# Altium footprint library WateringSystem_lib.PcbLib: 38 footprints (part 3 of 3)
Each footprint in its own frame and in the unit in brackets; x right, y up, seen from the top. Pads: shape width x height; smd on the part's side, far side on the other; paste and mask are expansions set on the pad; w line width, h text height; cw(c..) or ccw(c..) is an arc to the next point about the centre after c.
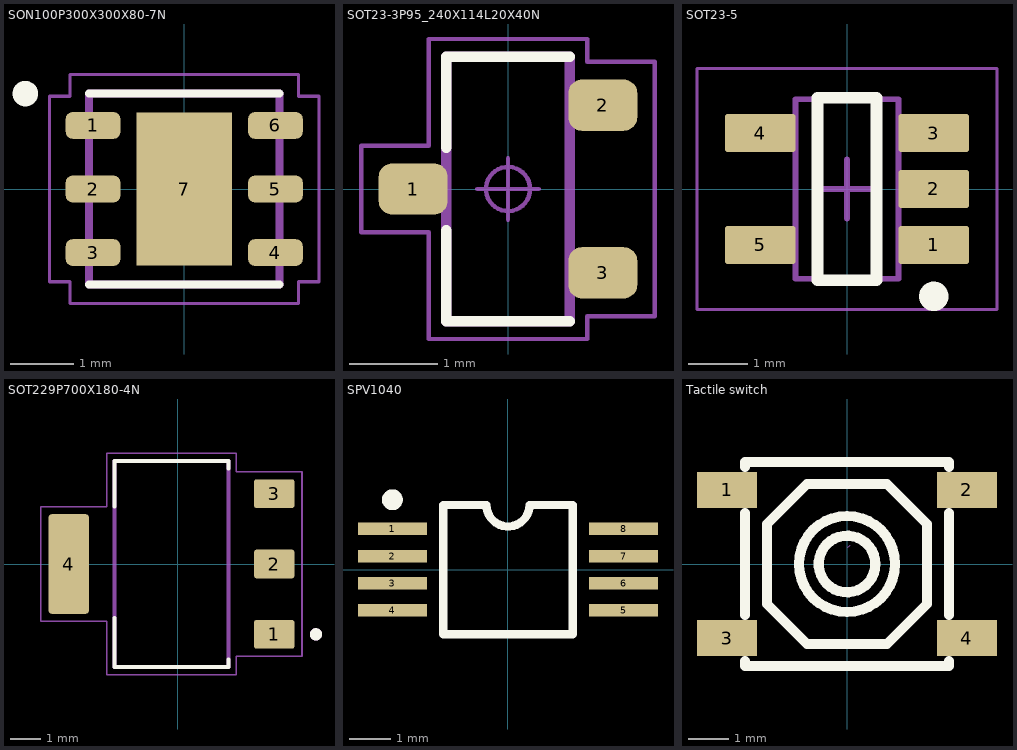
[diagram p2: the footprints below, top view; thin cyan lines are the x and y axes]

## SON100P300X300X80-7N [mm]
pads (7):
  rrect50% 0.86x0.42 smd: 1(-1.435,1) 2(-1.435,0) 3(-1.435,-1) 4(1.435,-1) 5(1.435,0) 6(1.435,1)
  rect 1.5x2.4 smd paste-2: 7(0,0)
Top Overlay:
  circle w0.2: c-2.5,1.5 r0.1
  lines w0.127: -1.5,-1.5 1.5,-1.5 ; -1.5,1.5 1.5,1.5
Top Paste:
  region: 0.485,0.09 -0.486,0.09 -0.486,1.02 0.485,1.02
  region: 0.485,-1.021 -0.485,-1.021 -0.485,-0.09 0.485,-0.09
Mechanical 13:
  lines w0.127: -1.5,-1.5 1.5,-1.5 1.5,1.5 -1.5,1.5 -1.5,-1.5
Mechanical 15:
  lines w0.05: -2.12,-1.46 -1.8,-1.46 -1.8,-1.8 1.8,-1.8 1.8,-1.46 2.12,-1.46 2.12,1.46 1.8,1.46 1.8,1.8 -1.8,1.8 -1.8,1.46 -2.12,1.46 -2.12,-1.46
3D body "HDC1080.STEP": height 0.8, standoff 0, extent -1.5,-1.5 1.5,1.5

## SOT23-3P95_240X114L20X40N [mm] "Small Outline Transistor (SOT23), 0.95 mm pitch; 3 pin, 2.90 mm L X 1.30 mm W X 1.14 mm H body"
height 1.14
pads (3):
  rrect52% 0.78x0.58 smd: 1(-1.075,0) 2(1.075,0.95) 3(1.075,-0.95)
Top Overlay:
  lines w0.12: -0.7,-0.47 -0.7,-1.5 0.7,-1.5 ; -0.7,0.47 -0.7,1.5 0.7,1.5
Mechanical 11:
  lines w0.12: -0.7,-1.5 -0.7,1.5 0.7,1.5 0.7,-1.5 -0.7,-1.5
Mechanical 12:
  lines w0.025: -1.2,-0.2 -1.2,0.2 -1,0.2 -1,-0.2 -1.2,-0.2 ; -0.65,-1.45 -0.65,1.45 0.65,1.45 0.65,-1.45 -0.65,-1.45 ; 1,-1.15 1.2,-1.15 1.2,-0.75 1,-0.75 1,-1.15 ; 1,0.75 1.2,0.75 1.2,1.15 1,1.15 1,0.75
Mechanical 15:
  circle w0.05: c0,0 r0.25
  lines w0.05: -0.35,0 0.35,0 ; 0,-0.35 0,0.35 ; -1.665,-0.49 -0.9,-0.49 -0.9,-1.7 0.9,-1.7 0.9,-1.44 1.665,-1.44 1.665,1.44 0.9,1.44 0.9,1.7 -0.9,1.7 -0.9,0.49 -1.665,0.49 -1.665,-0.49
3D body: height 0.25, standoff 0, extent -0.254,0 0,0.254
3D body "SOT23-3P95_240X114L20X40.STEP": height 1.14, standoff 0, extent -1.2,-1.45 1.2,1.45

## SOT23-5 [mm] "SOT23, 5-Leads, Body 3.05x1.75mm, Pitch 0.95mm, IPC Low Density"
height 1.45
pads (5):
  rrect15% 1.2x0.65 smd: 1(1.475,-0.95) 2(1.475,0) 3(1.475,0.95) 4(-1.475,0.95) 5(-1.475,-0.95)
Top Overlay:
  circle w0.25: c1.475,-1.825 r0.125
  lines w0.2: -0.5,-1.55 0.5,-1.55 0.5,1.55 -0.5,1.55 -0.5,-1.55
Mechanical 13:
  lines w0.1: -0.875,-1.525 -0.875,1.525 0.875,1.525 0.875,-1.525 -0.875,-1.525
Mechanical 15:
  lines w0.05: -2.55,-2.05 -2.55,2.05 2.55,2.05 2.55,-2.05 -2.55,-2.05
  lines w0.1: -0.5,0 0.5,0 ; 0,-0.5 0,0.5
3D body "DBV0005AaksMF05A.stp": height 1.08, standoff -0.01, extent -1.422,-1.46 1.422,1.461

## SOT229P700X180-4N [mm]
pads (4):
  rrect15% 1.31x0.93 smd: 1(3.145,-2.29) 2(3.145,0) 3(3.145,2.29)
  rrect15% 1.31x3.24 smd: 4(-3.545,0)
Top Overlay:
  circle w0.2: c4.503,-2.29 r0.1
  lines w0.127: -2.06,-1.76 -2.06,-3.36 1.66,-3.36 1.66,-3.1 ; -2.06,1.87 -2.06,3.36 1.66,3.36 1.66,3.11
Mechanical 13:
  circle w0.2: c4.503,-2.29 r0.1
  lines w0.127: -2.06,-3.36 1.66,-3.36 1.66,3.36 -2.06,3.36 -2.06,-3.36
Mechanical 15:
  lines w0.05: -4.45,-1.87 -4.45,1.87 -2.31,1.87 -2.31,3.61 1.91,3.61 1.91,3.01 4.05,3.01 4.05,-3.01 1.91,-3.01 1.91,-3.61 -2.31,-3.61 -2.31,-1.87 -4.45,-1.87
3D body "AMS1117.STEP": height 1.85, standoff -0.01, extent -3.7,-3.252 3.3,3.253

## SPV1040 [mm]
pads (8):
  rect 1.65x0.3 smd: 1(-2.775,0.975) 2(-2.775,0.325) 3(-2.775,-0.325) 4(-2.775,-0.975) 5(2.775,-0.975) 6(2.775,-0.325) 7(2.775,0.325) 8(2.775,0.975)
Top Overlay:
  circle w0.25: c-2.775,1.675 r0.125
  lines w0.2: -1.55,-1.55 1.55,-1.55 1.55,1.55 0.517,1.55 cw(c0,1.55) -0.517,1.55 -1.55,1.55 -1.55,-1.55
3D body "SPV1040T--3DModel-STEP-56544.STEP": height 1.2, standoff 0, extent -3.2,-1.5 3.2,1.5

## Tactile switch [mm]
pads (4):
  rect 1.5x0.9 smd: 1(-3,1.85) 2(3,1.85) 3(-3,-1.85) 4(3,-1.85)
Top Overlay:
  circle w0.254: c0,0 r0.707
  circle w0.254: c0,0 r1.2
  lines w0.254: -2.55,-2.431 -2.55,-2.55 2.55,-2.55 2.55,-2.431 ; -2.55,-1.269 -2.55,1.269 ; -2.55,2.431 -2.55,2.55 2.55,2.55 2.55,2.431 ; 2.55,-1.269 2.55,1.269 ; -2,-1 -2,1 -1,2 1,2 2,1 2,-1 1,-2 -1,-2 -2,-1
Mechanical 15:
  lines w0.003: 0.025,0.423 0.075,0.474
3D body "TS6-SMT_H-4.3.step": height 4.3, standoff 0, extent -4,-3 4,3